# EAGLE library part CONECTOR2MMSMD (library Projeto_Nicolau)
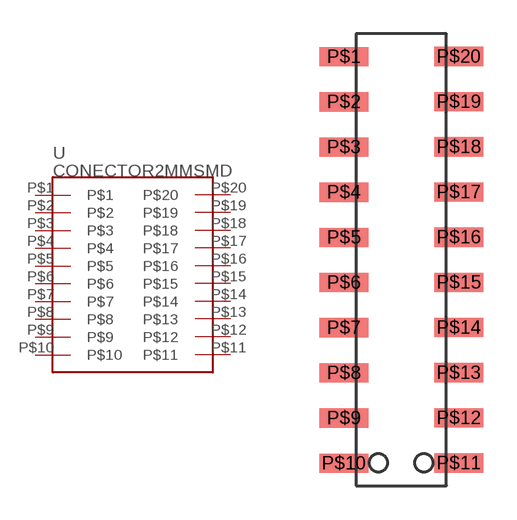
[diagram p5: symbol with the pads of CONECTOR2MMSMD; footprint CONECTOR2MMSMD]

Designator prefix -

## CONECTOR2MMSMD  [CONECTOR2MMSMD]
P$1  P$1
P$2  P$2
P$3  P$3
P$4  P$4
P$5  P$5
P$6  P$6
P$7  P$7
P$8  P$8
P$9  P$9
P$10  P$10
P$11  P$11
P$12  P$12
P$13  P$13
P$14  P$14
P$15  P$15
P$16  P$16
P$17  P$17
P$18  P$18
P$19  P$19
P$20  P$20

## Footprint CONECTOR2MMSMD (pad centres in mm)
smd 2.15 x 0.85: P$1 -1.137,17.99; P$2 -1.137,15.99; P$3 -1.137,13.99; P$4 -1.137,11.99; P$5 -1.137,9.99; P$6 -1.137,7.99; P$7 -1.137,5.99; P$8 -1.137,3.99; P$9 -1.137,1.99; P$10 -1.137,-0.01; P$11 3.95,0; P$12 3.95,2; P$13 3.95,4; P$14 3.95,6; P$15 3.95,8; P$16 3.95,10; P$17 3.95,12; P$18 3.95,14; P$19 3.95,16; P$20 3.95,18